# EAGLE library part TPS6735 (library wheat)
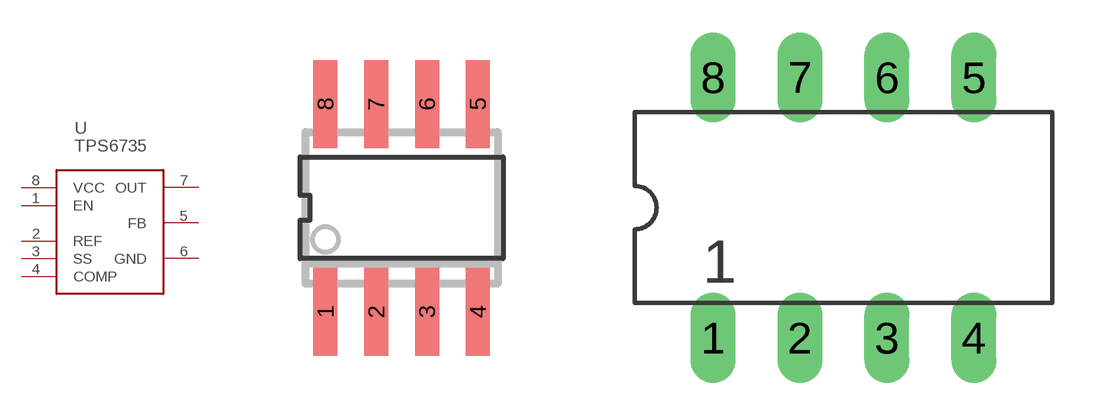
[diagram p169: symbol with the pads of SO8; footprints SO8, DIP8]

Designator prefix U

## TPS6735ID  [SO8]
1  EN
2  REF
3  SS
4  COMP
5  FB
6  GND
7  OUT
8  VCC

## TPS6735P  [DIP8]
Pads as for SO8

## Footprint SO8 (pad centres in mm)
SO8
smd 0.6 x 2.2: 1 -1.905,-2.6; 2 -0.635,-2.6; 3 0.635,-2.6; 4 1.905,-2.6; 5 1.905,2.6; 6 0.635,2.6; 7 -0.635,2.6; 8 -1.905,2.6

## Footprint DIP8 (pad centres in mm)
DIP8 .300 centers
drill 0.813 long: 1 0,0; 2 2.54,0; 3 5.08,0; 4 7.62,0; 5 7.62,7.62; 6 5.08,7.62; 7 2.54,7.62; 8 0,7.62